# Altium schematic symbol library 1.SchLib: 1 symbol
Pins are listed as number, name and electrical type; pins without a type are passive.

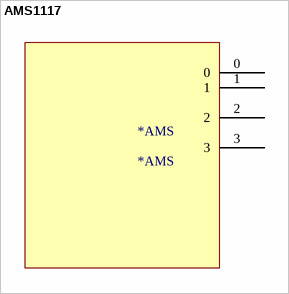
[diagram p0: symbol AMS1117]

## AMS1117
designator *AMS, comment *AMS
pins: 0, 1, 2, 3